# Altium footprint library Klotz.PcbLib: 16 footprints
Each footprint in its own frame and in the unit in brackets; x right, y up, seen from the top. Pads: shape width x height; smd on the part's side, far side on the other; paste and mask are expansions set on the pad; w line width, h text height; cw(c..) or ccw(c..) is an arc to the next point about the centre after c.
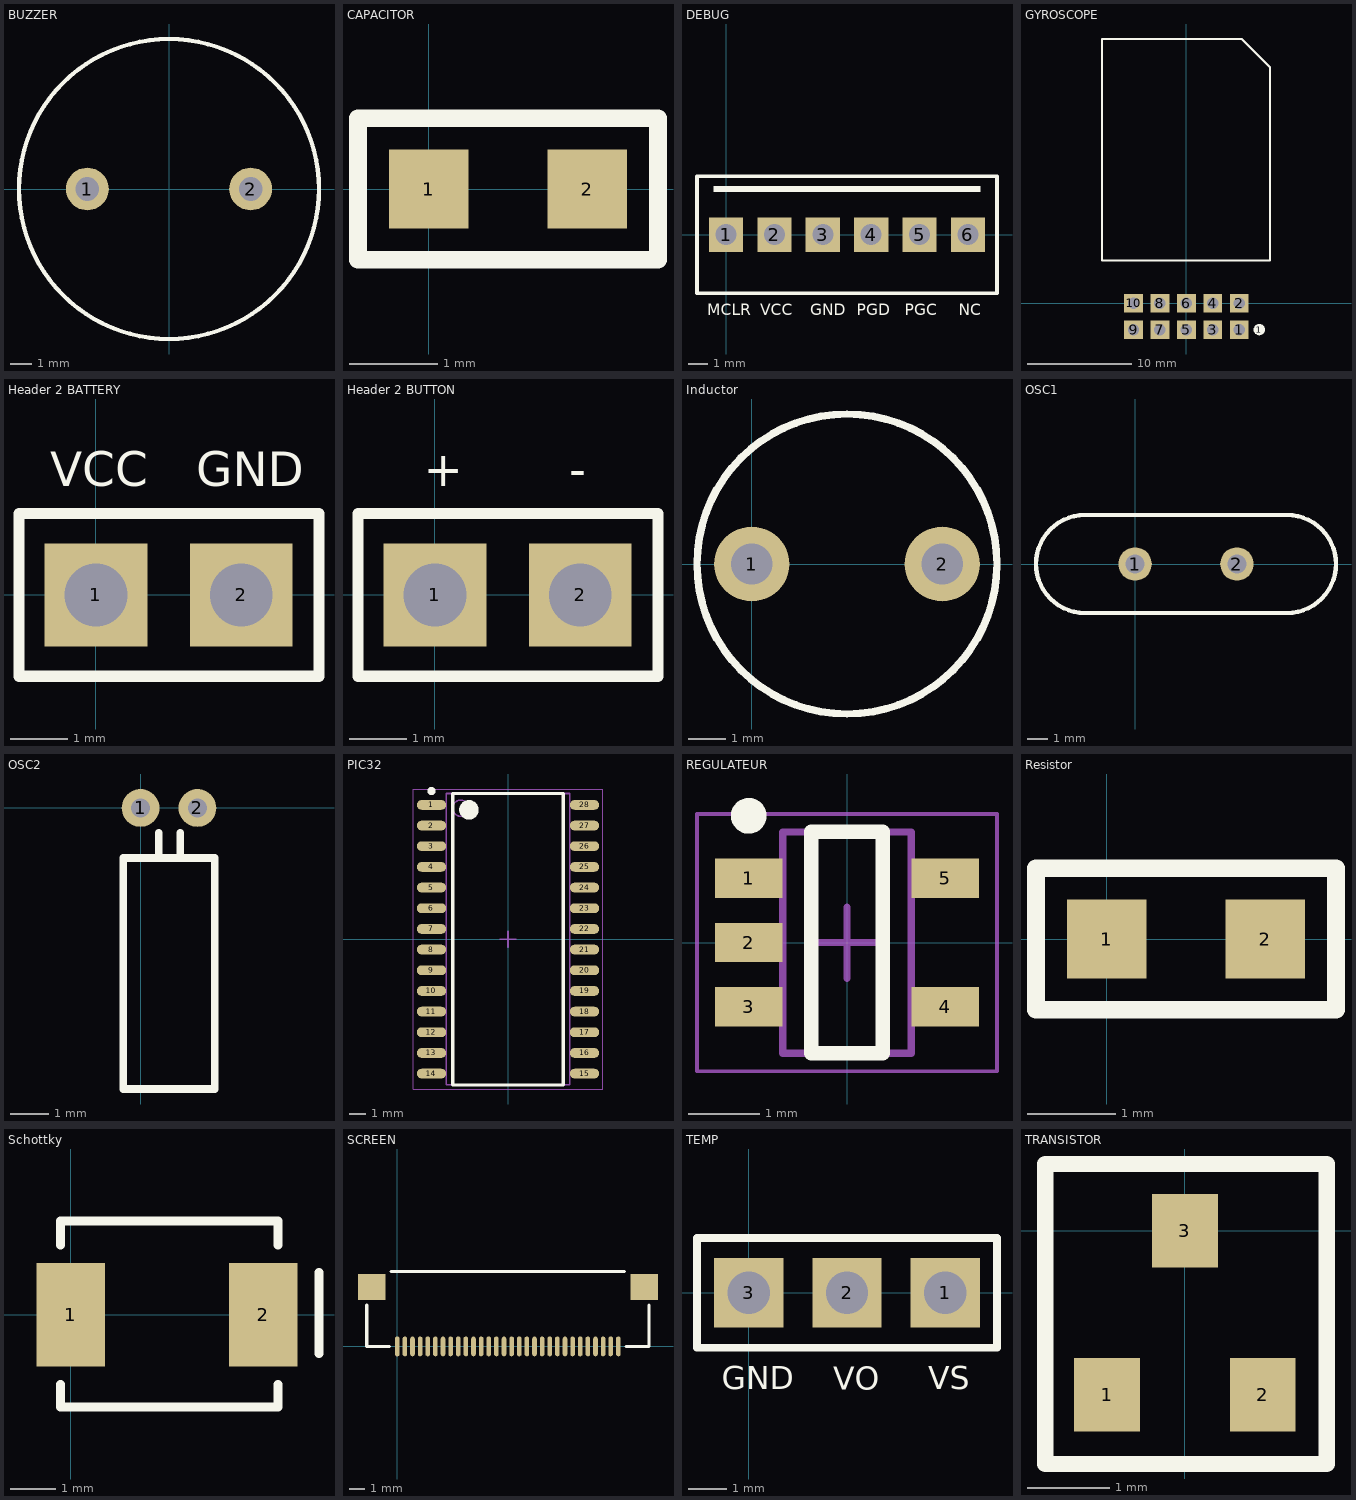
[diagram p0: the footprints below, top view; thin cyan lines are the x and y axes]

## BUZZER [mm] "Buzzer"
pads (2):
  round 2 hole 1.1: 1(-3.81,0) 2(3.81,0)
Top Overlay:
  circle w0.2: c0,0 r7
3D body: height 7.5, standoff 0, extent -6.999,-6.999 6.999,6.999

## CAPACITOR [mm] "Capacitor"
pads (2):
  rect 0.9x0.9 smd: 1(0,0) 2(1.8,0)
Top Overlay:
  lines w0.2: -0.8,-0.8 2.6,-0.8 2.6,0.8 -0.8,0.8 -0.8,-0.8
3D body "User Library-CapCeramic_Kemet_0603_1608.step": height 0.8, standoff 0, extent 0.1,-0.4 1.7,0.4

## DEBUG [mm] "Connecteur debugger"
height 12
pads (7):
  rect 1.8x1.8 hole 1.1: 1(0,0) 2(2.54,0) 3(5.08,0) 4(7.62,0) 5(10.16,0) 6(12.7,0)
  rect 14x0.3 on Top Overlay: 5(6.35,2.4)
Top Overlay:
  lines w0.2: -1.524,-3.073 14.224,-3.073 14.224,3.073 -1.524,3.073 -1.524,-3.073
  text "NC" at 12.217,-4.216 h0.6
  text "PGC" at 9.373,-4.216 h0.6
  text "PGD" at 6.858,-4.216 h0.6
  text "GND" at 4.42,-4.216 h0.6
  text "MCLR" at -0.991,-4.216 h0.6
  text "VCC" at 1.803,-4.216 h0.6
3D body "022272061.stp": height 11.72, standoff -3.54, extent -1.27,-2.925 13.97,2.875

## GYROSCOPE [mm] "Connecteur gyroscope"
height 9
pads (11):
  rect 1.8x1.8 hole 1.1: 1(5.08,-2.54) 2(5.08,0) 3(2.54,-2.54) 4(2.54,0) 5(0,-2.54) 6(0,0) 7(-2.54,-2.54) 8(-2.54,0) 9(-5.08,-2.54) 10(-5.08,0)
  round 1.1 on Top Overlay: 1(7,-2.54)
Top Overlay:
  lines w0.2: -8.1,4.1 8.025,4.1 8.025,22.675 5.325,25.375 -8.1,25.375 -8.1,4.1
3D body: height 3.45, standoff 1.75, extent -8.076,4.222 8.026,25.328
3D body "STEP-61301021021-rev1.stp": height 5.14, standoff -2.94, extent -6.5,-2.865 6.2,10.035

## Header 2 BATTERY [mm] "Connecteur"
height 12
pads (2):
  rect 1.8x1.8 hole 1.1: 1(0,0) 2(2.54,0)
Top Overlay:
  lines w0.2: -1.346,-1.422 -1.346,1.422 3.9,1.422 3.9,-1.422 -1.346,-1.422
  text "GND" at 1.75,1.9 h0.6
  text "VCC" at -0.8,1.9 h0.6
3D body "User Library-Header1x2.STEP": height 8.54, standoff -2.44, extent -1.265,-1.265 3.815,1.275

## Header 2 BUTTON [mm] "Connecteur"
height 12
pads (2):
  rect 1.8x1.8 hole 1.1: 1(0,0) 2(2.54,0)
Top Overlay:
  lines w0.2: -1.346,-1.422 3.9,-1.422 3.9,1.422 -1.346,1.422 -1.346,-1.422
  text "+" at -0.2,1.9 h0.6
  text "-" at 2.35,1.9 h0.6
3D body "User Library-Header1x2.STEP": height 8.54, standoff -2.44, extent -1.265,-1.275 3.815,1.265

## Inductor [mm]
pads (2):
  round 2 hole 1.1: 1(0,0) 2(5.08,0)
Top Overlay:
  circle w0.2: c2.54,0 r4
3D body: height 7.5, standoff 0, extent -1.459,-3.999 6.539,3.999

## OSC1 [mm] "Quartz 8MHZ"
height 4
pads (2):
  round 1.6 hole 0.9: 1(0,0) 2(4.88,0)
Top Overlay:
  lines w0.2: -2.4,-2.35 cw(c-2.4,0) -2.4,2.35 7.28,2.35 cw(c7.28,0) 7.28,-2.35 -2.4,-2.35
3D body: height 4, standoff 0, extent -4.749,-2.349 9.629,2.349

## OSC2 [mm] "Quartz 32.768khZ"
height 6.2
pads (2):
  round 1 hole 0.5: 1(0,0) 2(1.5,0)
Top Overlay:
  lines w0.2: 0.483,-1.295 0.483,-0.66 ; 1.041,-1.321 1.041,-0.66 ; -0.457,-7.417 -0.457,-1.321 1.956,-1.321 1.956,-7.417 -0.457,-7.417
3D body: height 2.9, standoff 0.5, extent -0.457,-7.416 1.955,-1.321

## PIC32 [mm] "PIC32MX170F256B-I/SO"
height 2.65
pads (28):
  oval 1.8x0.6 smd: 1(-4.7,8.255) 2(-4.7,6.985) 3(-4.7,5.715) 4(-4.7,4.445) 5(-4.7,3.175) 6(-4.7,1.905) 7(-4.7,0.635) 8(-4.7,-0.635) 9(-4.7,-1.905) 10(-4.7,-3.175) 11(-4.7,-4.445) 12(-4.7,-5.715) 13(-4.7,-6.985) 14(-4.7,-8.255) 15(4.7,-8.255) 16(4.7,-6.985) 17(4.7,-5.715) 18(4.7,-4.445) 19(4.7,-3.175) 20(4.7,-1.905) 21(4.7,-0.635) 22(4.7,0.635) 23(4.7,1.905) 24(4.7,3.175) 25(4.7,4.445) 26(4.7,5.715) 27(4.7,6.985) 28(4.7,8.255)
Top Overlay:
  circle w0.6: c-2.4,7.95 r0.3
  circle w0.25: c-4.7,9.105 r0.125
  lines w0.2: -3.4,-8.95 3.4,-8.95 3.4,8.95 -3.4,8.95 -3.4,-8.95
Mechanical 13:
  circle w0.1: c-2.9,8.05 r0.5
  lines w0.1: -3.8,-8.95 3.8,-8.95 3.8,8.95 -3.8,8.95 -3.8,-8.95
Mechanical 15:
  lines w0.05: -5.825,-9.2 5.825,-9.2 5.825,9.2 -5.825,9.2 -5.825,-9.2
  lines w0.1: -0.5,0 0.5,0 ; 0,-0.5 0,0.5
3D body: height 2.65, standoff 0.1, extent -3.8,-8.95 3.8,8.95

## REGULATEUR [mm] "RT8008"
height 1.3
pads (5):
  rect 0.95x0.55 smd mask+0.05: 1(-1.375,0.9) 2(-1.375,0) 3(-1.375,-0.9) 4(1.375,-0.9) 5(1.375,0.9)
Top Overlay:
  circle w0.25: c-1.375,1.775 r0.125
  lines w0.2: -0.5,-1.55 0.5,-1.55 0.5,1.55 -0.5,1.55 -0.5,-1.55
Mechanical 13:
  lines w0.1: -0.9,-1.55 -0.9,1.55 0.9,1.55 0.9,-1.55 -0.9,-1.55
Mechanical 15:
  lines w0.05: -2.1,-1.8 -2.1,1.8 2.1,1.8 2.1,-1.8 -2.1,-1.8
  lines w0.1: -0.5,0 0.5,0 ; 0,-0.5 0,0.5
3D body: height 1.3, standoff 0, extent -0.9,-1.55 0.9,1.55

## Resistor [mm] "Resistor"
pads (2):
  rect 0.9x0.9 smd: 1(0,0) 2(1.8,0)
Top Overlay:
  lines w0.2: -0.8,-0.8 2.6,-0.8 2.6,0.8 -0.8,0.8 -0.8,-0.8
3D body "User Library-RES_1609-0603.step": height 0.56, standoff 0, extent 0.05,-0.4 1.75,0.4

## Schottky [mm] "Diode de redressement"
height 2.7
pads (2):
  rect 1.52x2.3 smd: 1(0,0) 2(4.27,0)
Top Overlay:
  lines w0.2: -0.229,-1.549 -0.229,-2.057 4.597,-2.057 4.597,-1.549 ; -0.229,1.549 -0.229,2.083 4.597,2.083 4.597,1.549 ; 5.512,-0.864 5.512,0.936
3D body: height 2.45, standoff 0.1, extent -0.025,-1.8 4.3,1.8

## SCREEN [mm]
pads (32):
  oval 0.3x1.3 smd: 1(14.5,0) 2(14,0) 3(13.5,0) 4(13,0) 5(12.5,0) 6(12,0) 7(11.5,0) 8(11,0) 9(10.5,0) 10(10,0) 11(9.5,0) 12(9,0) 13(8.5,0) 14(8,0) 15(7.5,0) 16(7,0) 17(6.5,0) 18(6,0) 19(5.5,0) 20(5,0) 21(4.5,0) 22(4,0) 23(3.5,0) 24(3,0) 25(2.5,0) 26(2,0) 27(1.5,0) 28(1,0) 29(0.5,0) 30(0,0)
  rect 1.8x1.7 smd: ""(-1.675,3.9) ""(16.2,3.9)
Top Overlay:
  lines w0.2: -2,2.7 -2,0 -0.5,0 ; -0.4,4.9 14.9,4.9 ; 15,0 16.5,0 16.5,2.7
3D body "3-1734839-0.stp": height 2.05, standoff 0, extent -2.965,-0.375 17.465,4.735

## TEMP [mm] "Connecteur"
height 12
pads (3):
  rect 1.8x1.8 hole 1.1: 1(5.08,0) 2(2.54,0) 3(0,0)
Top Overlay:
  lines w0.2: -1.346,-1.422 -1.346,1.422 6.426,1.422 6.426,-1.422 -1.346,-1.422
  text "VO" at 2.184,-2.513 h0.6
  text "VS" at 4.65,-2.5 h0.6
  text "GND" at -0.7,-2.5 h0.6
3D body: height 10, standoff 0, extent -1.346,-1.422 6.426,1.422

## TRANSISTOR [mm] "BSS84"
height 1.2
pads (3):
  rect 0.8x0.9 smd: 1(-0.95,-2) 2(0.95,-2) 3(0,0)
Top Overlay:
  lines w0.2: -1.702,-2.845 1.727,-2.845 1.727,0.813 -1.702,0.813 -1.702,-2.845
3D body: height 1.2, standoff 0, extent -1.701,-2.844 1.727,0.812